# Altium footprint library C322C103K5R5TA.PcbLib: 1 footprints
Each footprint in its own frame and in the unit in brackets; x right, y up, seen from the top. Pads: shape width x height; smd on the part's side, far side on the other; paste and mask are expansions set on the pad; w line width, h text height; cw(c..) or ccw(c..) is an arc to the next point about the centre after c.
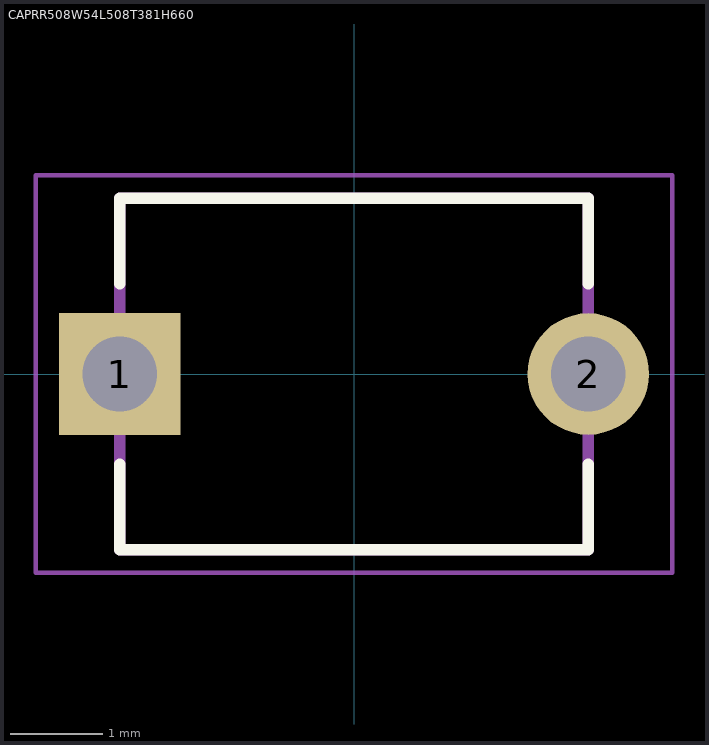
[diagram p0: the footprint, top view; thin cyan lines are the x and y axes]

## CAPRR508W54L508T381H660 [mm]
pads (2):
  rect 1.318x1.318 / inner round 1.318 / far side rect 1.318x1.318 hole 0.81: 1(-2.54,0)
  round 1.318 hole 0.81: 2(2.54,0)
Top Overlay:
  lines w0.127: -2.54,-0.979 -2.54,-1.905 2.54,-1.905 2.54,-0.979 ; -2.54,0.979 -2.54,1.905 2.54,1.905 2.54,0.979
Assembly Top:
  lines w0.127: -2.54,-1.905 2.54,-1.905 2.54,1.905 -2.54,1.905 -2.54,-1.905
Courtyard Top:
  lines w0.05: -3.449,-2.155 -3.449,2.155 3.449,2.155 3.449,-2.155 -3.449,-2.155
3D body "step_temp.STEP": height 6.6, standoff -7, extent -2.795,-1.59 2.795,1.59